# EAGLE library part MDC3105XV6T1 (library EW_Electro_Mechanical)
Integrated Relay, Inductive Load Driver Sopurce: U6 OnSemi Inductive Load Driver MDC3105-D.PDF
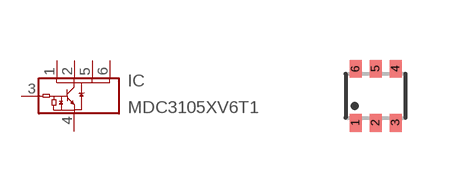
[diagram p136: symbol with the pads of SOT-563; footprint SOT-563]

Designator prefix IC

## MDC3105XV6T1 (OC_FARNELL: unknown; OC_NEWARK: unknown)  [SOT-563]
1  VOUT  pas
2  VOUT1  pas
3  VIN  pas
4  GND  pas
5  VOUT2  pas
6  VOUT3  pas

## Footprint SOT-563 (pad centres in mm)
SOT-563, 6 LEAD CASE 463A-01 ISSUE F Source: U6 OnSemi Inductive Load Driver MDC3105-D.PDF
smd 0.3 x 0.45: 1 -0.5,-0.675; 2 0,-0.675; 3 0.5,-0.675; 4 0.5,0.675; 5 0,0.675; 6 -0.5,0.675